# Altium footprint library HDMI.PcbLib: 1 footprints
Each footprint in its own frame and in the unit in brackets; x right, y up, seen from the top. Pads: shape width x height; smd on the part's side, far side on the other; paste and mask are expansions set on the pad; w line width, h text height; cw(c..) or ccw(c..) is an arc to the next point about the centre after c.
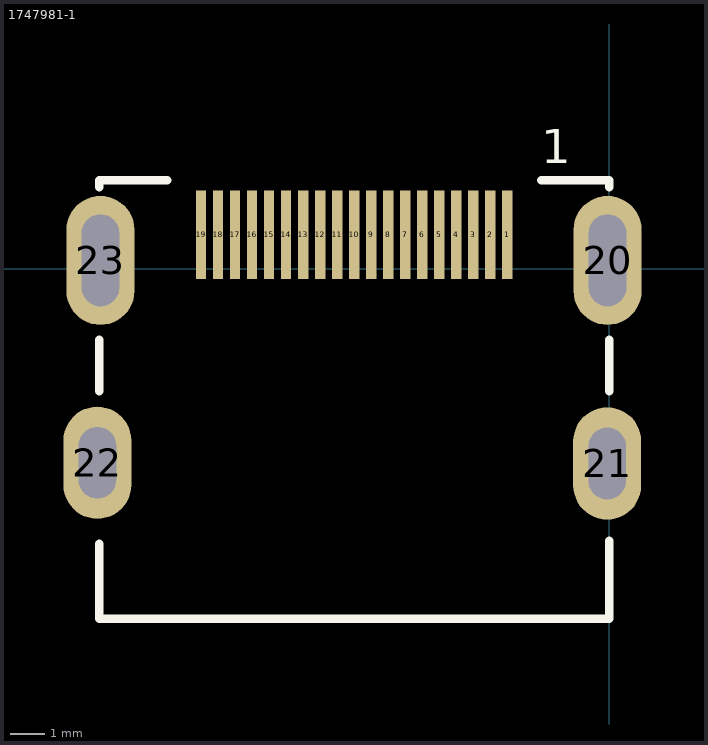
[diagram p0: the footprint, top view; thin cyan lines are the x and y axes]

## 1747981-1 [mm] "Standard HDMI, Type A Series, 1 Port, KLS1-285-1-N-30-R"
height 6.08
pads (23):
  rect 0.3x2.6 smd: 1(-3,1) 2(-3.5,1) 3(-4,1) 4(-4.5,1) 5(-5,1) 6(-5.5,1) 7(-6,1) 8(-6.5,1) 9(-7,1) 10(-7.5,1) 11(-8,1) 12(-8.5,1) 13(-9,1) 14(-9.5,1) 15(-10,1) 16(-10.5,1) 17(-11,1) 18(-11.5,1) 19(-12,1)
  oval 2x3.8 hole 1.1 slot 2.7 at 90 deg: 20(-0.05,0.24) 23(-14.96,0.24)
  oval 2x3.3 hole 1.1 slot 2.1 at 90 deg: 21(-0.06,-5.73) 22(-15.05,-5.71)
Top Overlay:
  lines w0.254: -15,-8.1 -15,-10.3 -11.1,-10.3 0,-10.3 0,-8 ; -15,-3.6 -15,-2.1 ; -15,2.4 -15,2.6 -13,2.6 ; -2,2.6 0,2.6 0,2.4 ; 0,-3.6 0,-2.1
  text "1" at -2,3.1 h1
3D body "1827059-1.stp": height 6.03, standoff -2.25, extent -15,-10.3 0,1.8